# Altium schematic symbol library PIC16F74-I_PT.SchLib: 1 symbol
Pins are listed as number, name and electrical type; pins without a type are passive.

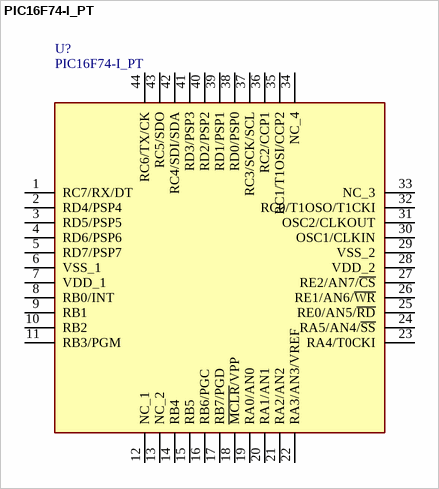
[diagram p0: symbol PIC16F74-I_PT]

## PIC16F74-I_PT
designator U?
Microcontroller,PIC16F74-I/PT 20MHz PIC16F74-I/PT, 8 bit PIC Microcontroller 20MHz 4K x 14 words Flash, 192 B RAM, I2C 44-Pin TQFP; Manufacturer: Microchip; Supplier Part Number: 579-PIC16F74-I/PT; Supplier: Mouser; Manufacturer Part Number: PIC16F74-I/PT; Price: 6.83; Value: PIC16F74-I/PT
footprint QFP80P1200X1200X120-44N
pins: 1 RC7/RX/DT, 2 RD4/PSP4, 3 RD5/PSP5, 4 RD6/PSP6, 5 RD7/PSP7, 6 VSS_1, 7 VDD_1, 8 RB0/INT, 9 RB1, 10 RB2, 11 RB3/PGM, 12 NC_1, 13 NC_2, 14 RB4, 15 RB5, 16 RB6/PGC, 17 RB7/PGD, 18 ~{MCLR}/VPP, 19 RA0/AN0, 20 RA1/AN1, 21 RA2/AN2, 22 RA3/AN3/VREF, 23 RA4/T0CKI, 24 RA5/AN4/~{SS}, 25 RE0/AN5/~{RD}, 26 RE1/AN6/~{WR}, 27 RE2/AN7/~{CS}, 28 VDD_2, 29 VSS_2, 30 OSC1/CLKIN, 31 OSC2/CLKOUT, 32 RC0/T1OSO/T1CKI, 33 NC_3, 34 NC_4, 35 RC1/T1OSI/CCP2, 36 RC2/CCP1, 37 RC3/SCK/SCL, 38 RD0/PSP0, 39 RD1/PSP1, 40 RD2/PSP2, 41 RD3/PSP3, 42 RC4/SDI/SDA, 43 RC5/SDO, 44 RC6/TX/CK